# EAGLE library part MAX992 (library BQ25504)
The MAX9922/MAX9923 ultra-precision, high-side current- sense amplifiers feature ultra-low offset voltage (VOS) of 25μV (max) and laser-trimmed gain accuracy better than 0.5%. The combination of low VOS and highgain accuracy allows precise current measurements even at very small sense voltages.
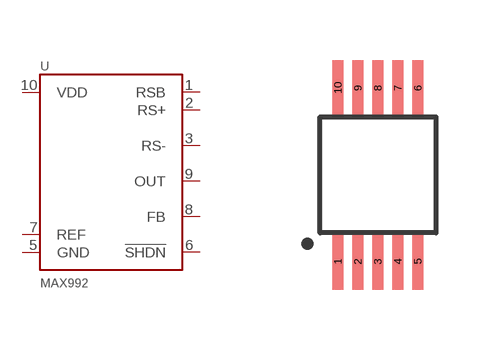
[diagram p61: symbol with the pads of UMAX10; footprint UMAX10]

Designator prefix U

## MAX9923H (DIGIKEY: MAX9923HEUB+-ND)  [UMAX10]
1  RSB
2  RS+
3  RS-
5  GND
6  !SHDN
7  REF
8  FB
9  OUT
10  VDD

## Footprint UMAX10 (pad centres in mm)
smd 0.28 x 1.4: 1 -1,-2.17; 2 -0.5,-2.17; 3 0,-2.17; 4 0.5,-2.17; 5 1,-2.17; 6 1,2.17; 7 0.5,2.17; 8 0,2.17; 9 -0.5,2.17; 10 -1,2.17